# Altium integrated library Renesas Microcontroller 740.IntLib: 274 symbols (part 12 of 13)
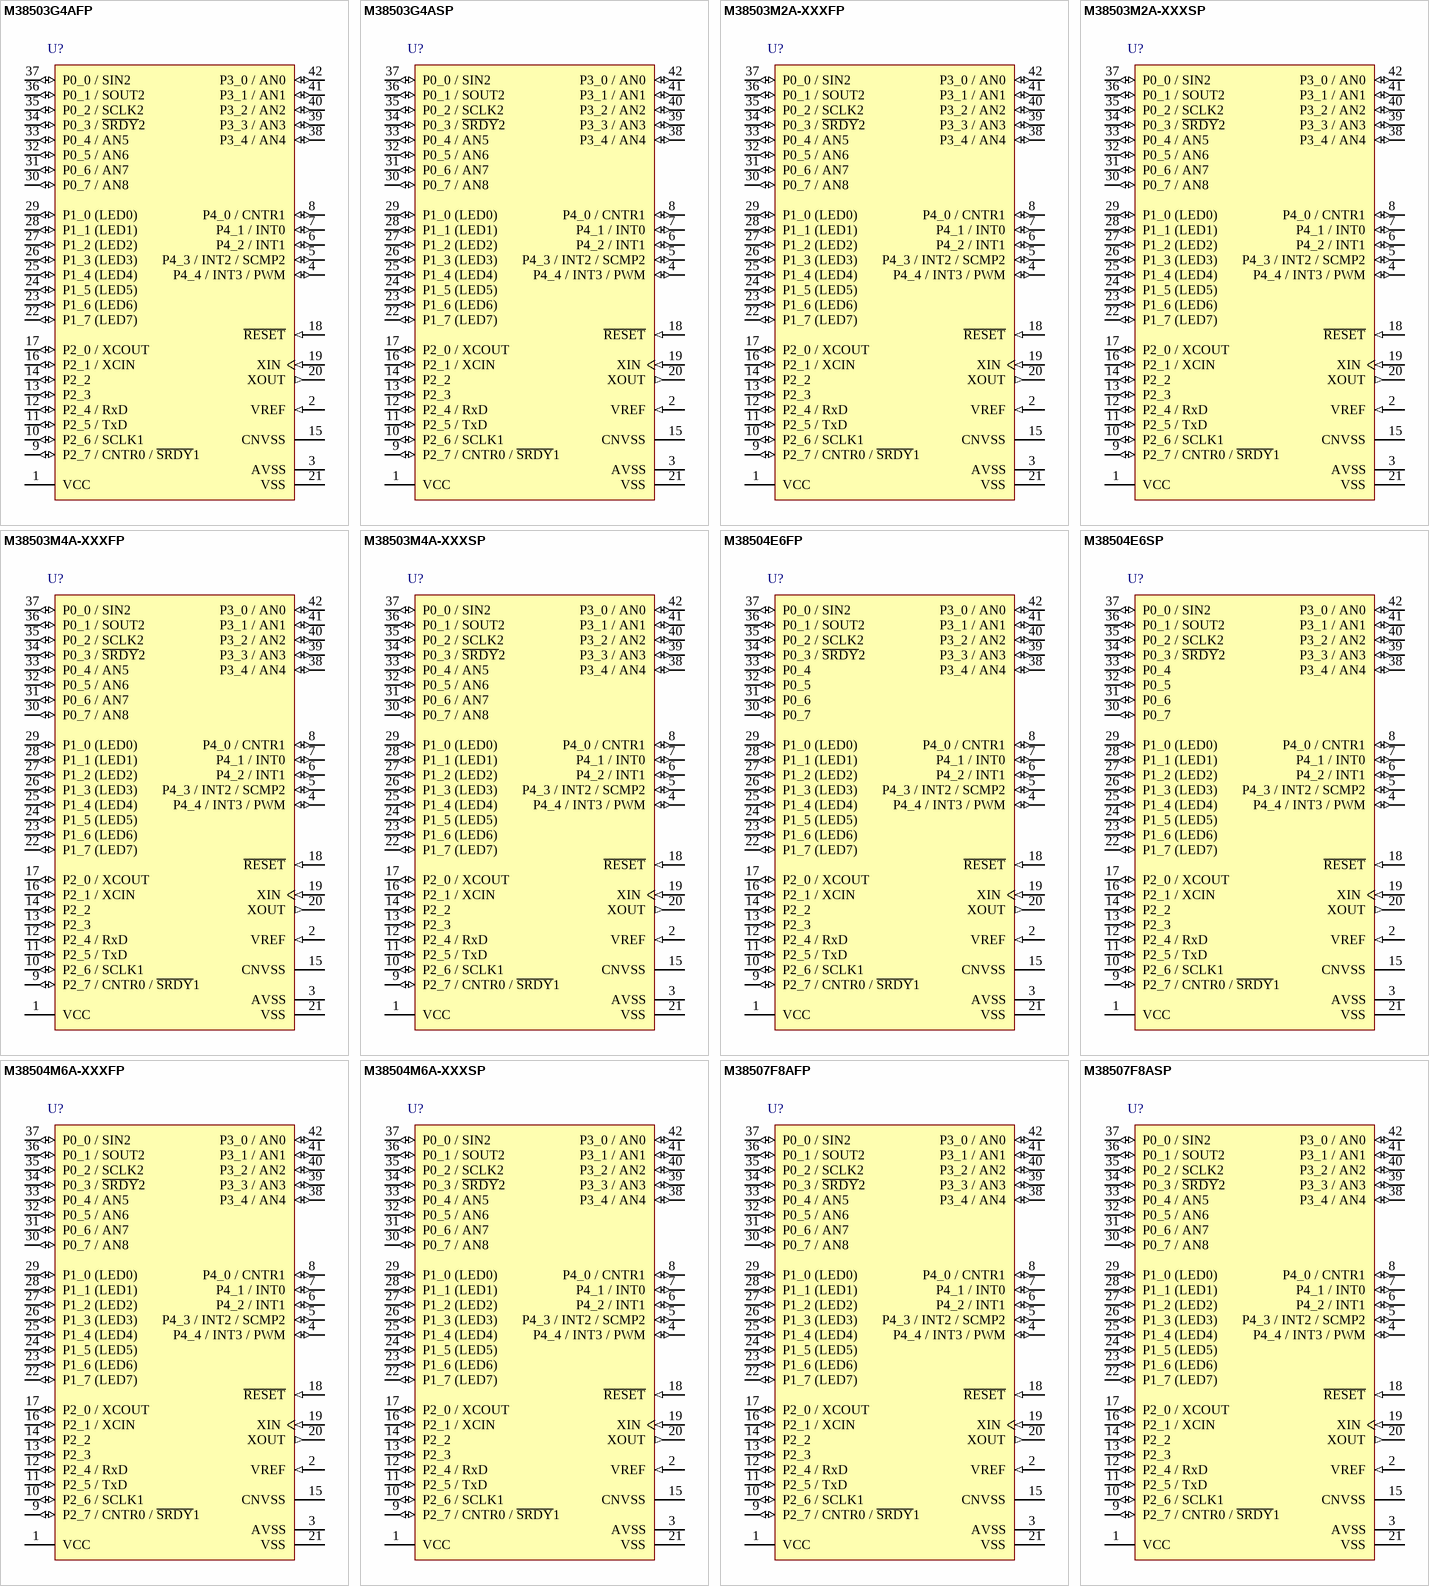
[diagram p48: symbols M38503G4AFP to M38507F8ASP]

## M38504M6A-XXXSP
designator U?
Mask ROM 8-BIT CMOS Microcomputer, 38000/740 Series CPU, 3850 Group, 24K ROM, 640 bytes RAM, 42P4B Pkg; Published: 28-Aug-2009; DatasheetVersion: Rev.2.13, Apr-2009; PackageVersion: Sep-2005; PackageReference: PRDP0042BA-A; Publisher: Altium Limited; PackageDescription: 42-Pin Plastic Shrink DIP, 36.7 x 13 mm Body, 15.24 mm Row Spacing, 1.778 mm Pitch; Code_JEITA: P-SDIP42-13x36.72-1.78; ComponentLink1Description: Manufacturer Link; ComponentLink1URL: http://sg.renesas.com/fmwk.jsp?cnt=740_family_landing.jsp&fp=/products/mpumcu/740_family/; ComponentLink2Description: Datasheet; ComponentLink2URL: http://documentation.renesas.com/eng/products/mpumcu/rej03b0125_3850aqzds.pdf; ComponentLink3Description: Packaging Specification; ComponentLink3URL: http://sg.renesas.com/media/products/common_info/package/pdf/ic/code/prdp0042ba_a.pdf
footprint PRDP0042BA-A (DIP, 42-Leads, Row Spacing 15.24mm, Pitch 1.778mm, Body 36.7x13mm)
pins: 1 VCC (power), 2 VREF (in), 3 AVSS (power), 4 P4_4 / INT3 / PWM (io), 5 P4_3 / INT2 / SCMP2 (io), 6 P4_2 / INT1 (io), 7 P4_1 / INT0 (io), 8 P4_0 / CNTR1 (io), 9 P2_7 / CNTR0 / ~{SRDY}1 (io), 10 P2_6 / SCLK1 (io), 11 P2_5 / TxD (io), 12 P2_4 / RxD (io), 13 P2_3 (io), 14 P2_2 (io), 15 CNVSS (power), 16 P2_1 / XCIN (io), 17 P2_0 / XCOUT (io), 18 ~{RESET} (in), 19 XIN (in), 20 XOUT (out), 21 VSS (power), 22 P1_7 (LED7) (io), 23 P1_6 (LED6) (io), 24 P1_5 (LED5) (io), 25 P1_4 (LED4) (io), 26 P1_3 (LED3) (io), 27 P1_2 (LED2) (io), 28 P1_1 (LED1) (io), 29 P1_0 (LED0) (io), 30 P0_7 / AN8 (io), 31 P0_6 / AN7 (io), 32 P0_5 / AN6 (io), 33 P0_4 / AN5 (io), 34 P0_3 / ~{SRDY}2 (io), 35 P0_2 / SCLK2 (io), 36 P0_1 / SOUT2 (io), 37 P0_0 / SIN2 (io), 38 P3_4 / AN4 (io), 39 P3_3 / AN3 (io), 40 P3_2 / AN2 (io), 41 P3_1 / AN1 (io), 42 P3_0 / AN0 (io)

## M38507F8AFP
designator U?
Flash Memory 8-BIT CMOS Microcomputer, 38000/740 Series CPU, 3850 Group, 32K ROM, 1K RAM, 42P2R-E Pkg; Published: 28-Aug-2009; DatasheetVersion: Rev.2.13, Apr-2009; PackageVersion: Sep-2005; PackageReference: PRSP0042GA-B; Publisher: Altium Limited; PackageDescription: 42-Pin Plastic Shrink SOP, 17.5 x 8.4 mm Body, 0.8 mm Pitch; Code_JEITA: P-SSOP42-8.4x17.5-0.80; ComponentLink1Description: Manufacturer Link; ComponentLink1URL: http://sg.renesas.com/fmwk.jsp?cnt=740_family_landing.jsp&fp=/products/mpumcu/740_family/; ComponentLink2Description: Datasheet; ComponentLink2URL: http://documentation.renesas.com/eng/products/mpumcu/rej03b0125_3850aqzds.pdf; ComponentLink3Description: Packaging Specification; ComponentLink3URL: http://sg.renesas.com/media/products/common_info/package/pdf/ic/code/prsp0042ga_b.pdf
footprint PRSP0042GA-B_N (SOP, 42-Leads, Body 17.5x8.4mm, Pitch 0.8mm, IPC Medium Density)
footprint PRSP0042GA-B_L (SOP, 42-Leads, Body 17.5x8.4mm, Pitch 0.8mm, IPC High Density)
footprint PRSP0042GA-B_M (SOP, 42-Leads, Body 17.5x8.4mm, Pitch 0.8mm, IPC Low Density)
pins: 1 VCC (power), 2 VREF (in), 3 AVSS (power), 4 P4_4 / INT3 / PWM (io), 5 P4_3 / INT2 / SCMP2 (io), 6 P4_2 / INT1 (io), 7 P4_1 / INT0 (io), 8 P4_0 / CNTR1 (io), 9 P2_7 / CNTR0 / ~{SRDY}1 (io), 10 P2_6 / SCLK1 (io), 11 P2_5 / TxD (io), 12 P2_4 / RxD (io), 13 P2_3 (io), 14 P2_2 (io), 15 CNVSS (power), 16 P2_1 / XCIN (io), 17 P2_0 / XCOUT (io), 18 ~{RESET} (in), 19 XIN (in), 20 XOUT (out), 21 VSS (power), 22 P1_7 (LED7) (io), 23 P1_6 (LED6) (io), 24 P1_5 (LED5) (io), 25 P1_4 (LED4) (io), 26 P1_3 (LED3) (io), 27 P1_2 (LED2) (io), 28 P1_1 (LED1) (io), 29 P1_0 (LED0) (io), 30 P0_7 / AN8 (io), 31 P0_6 / AN7 (io), 32 P0_5 / AN6 (io), 33 P0_4 / AN5 (io), 34 P0_3 / ~{SRDY}2 (io), 35 P0_2 / SCLK2 (io), 36 P0_1 / SOUT2 (io), 37 P0_0 / SIN2 (io), 38 P3_4 / AN4 (io), 39 P3_3 / AN3 (io), 40 P3_2 / AN2 (io), 41 P3_1 / AN1 (io), 42 P3_0 / AN0 (io)

## M38507F8ASP
designator U?
Flash Memory 8-BIT CMOS Microcomputer, 38000/740 Series CPU, 3850 Group, 32K ROM, 1K RAM, 42P4B Pkg; Published: 28-Aug-2009; DatasheetVersion: Rev.2.13, Apr-2009; PackageVersion: Sep-2005; PackageReference: PRDP0042BA-A; Publisher: Altium Limited; PackageDescription: 42-Pin Plastic Shrink DIP, 36.7 x 13 mm Body, 15.24 mm Row Spacing, 1.778 mm Pitch; Code_JEITA: P-SDIP42-13x36.72-1.78; ComponentLink1Description: Manufacturer Link; ComponentLink1URL: http://sg.renesas.com/fmwk.jsp?cnt=740_family_landing.jsp&fp=/products/mpumcu/740_family/; ComponentLink2Description: Datasheet; ComponentLink2URL: http://documentation.renesas.com/eng/products/mpumcu/rej03b0125_3850aqzds.pdf; ComponentLink3Description: Packaging Specification; ComponentLink3URL: http://sg.renesas.com/media/products/common_info/package/pdf/ic/code/prdp0042ba_a.pdf
footprint PRDP0042BA-A (DIP, 42-Leads, Row Spacing 15.24mm, Pitch 1.778mm, Body 36.7x13mm)
pins: 1 VCC (power), 2 VREF (in), 3 AVSS (power), 4 P4_4 / INT3 / PWM (io), 5 P4_3 / INT2 / SCMP2 (io), 6 P4_2 / INT1 (io), 7 P4_1 / INT0 (io), 8 P4_0 / CNTR1 (io), 9 P2_7 / CNTR0 / ~{SRDY}1 (io), 10 P2_6 / SCLK1 (io), 11 P2_5 / TxD (io), 12 P2_4 / RxD (io), 13 P2_3 (io), 14 P2_2 (io), 15 CNVSS (power), 16 P2_1 / XCIN (io), 17 P2_0 / XCOUT (io), 18 ~{RESET} (in), 19 XIN (in), 20 XOUT (out), 21 VSS (power), 22 P1_7 (LED7) (io), 23 P1_6 (LED6) (io), 24 P1_5 (LED5) (io), 25 P1_4 (LED4) (io), 26 P1_3 (LED3) (io), 27 P1_2 (LED2) (io), 28 P1_1 (LED1) (io), 29 P1_0 (LED0) (io), 30 P0_7 / AN8 (io), 31 P0_6 / AN7 (io), 32 P0_5 / AN6 (io), 33 P0_4 / AN5 (io), 34 P0_3 / ~{SRDY}2 (io), 35 P0_2 / SCLK2 (io), 36 P0_1 / SOUT2 (io), 37 P0_0 / SIN2 (io), 38 P3_4 / AN4 (io), 39 P3_3 / AN3 (io), 40 P3_2 / AN2 (io), 41 P3_1 / AN1 (io), 42 P3_0 / AN0 (io)

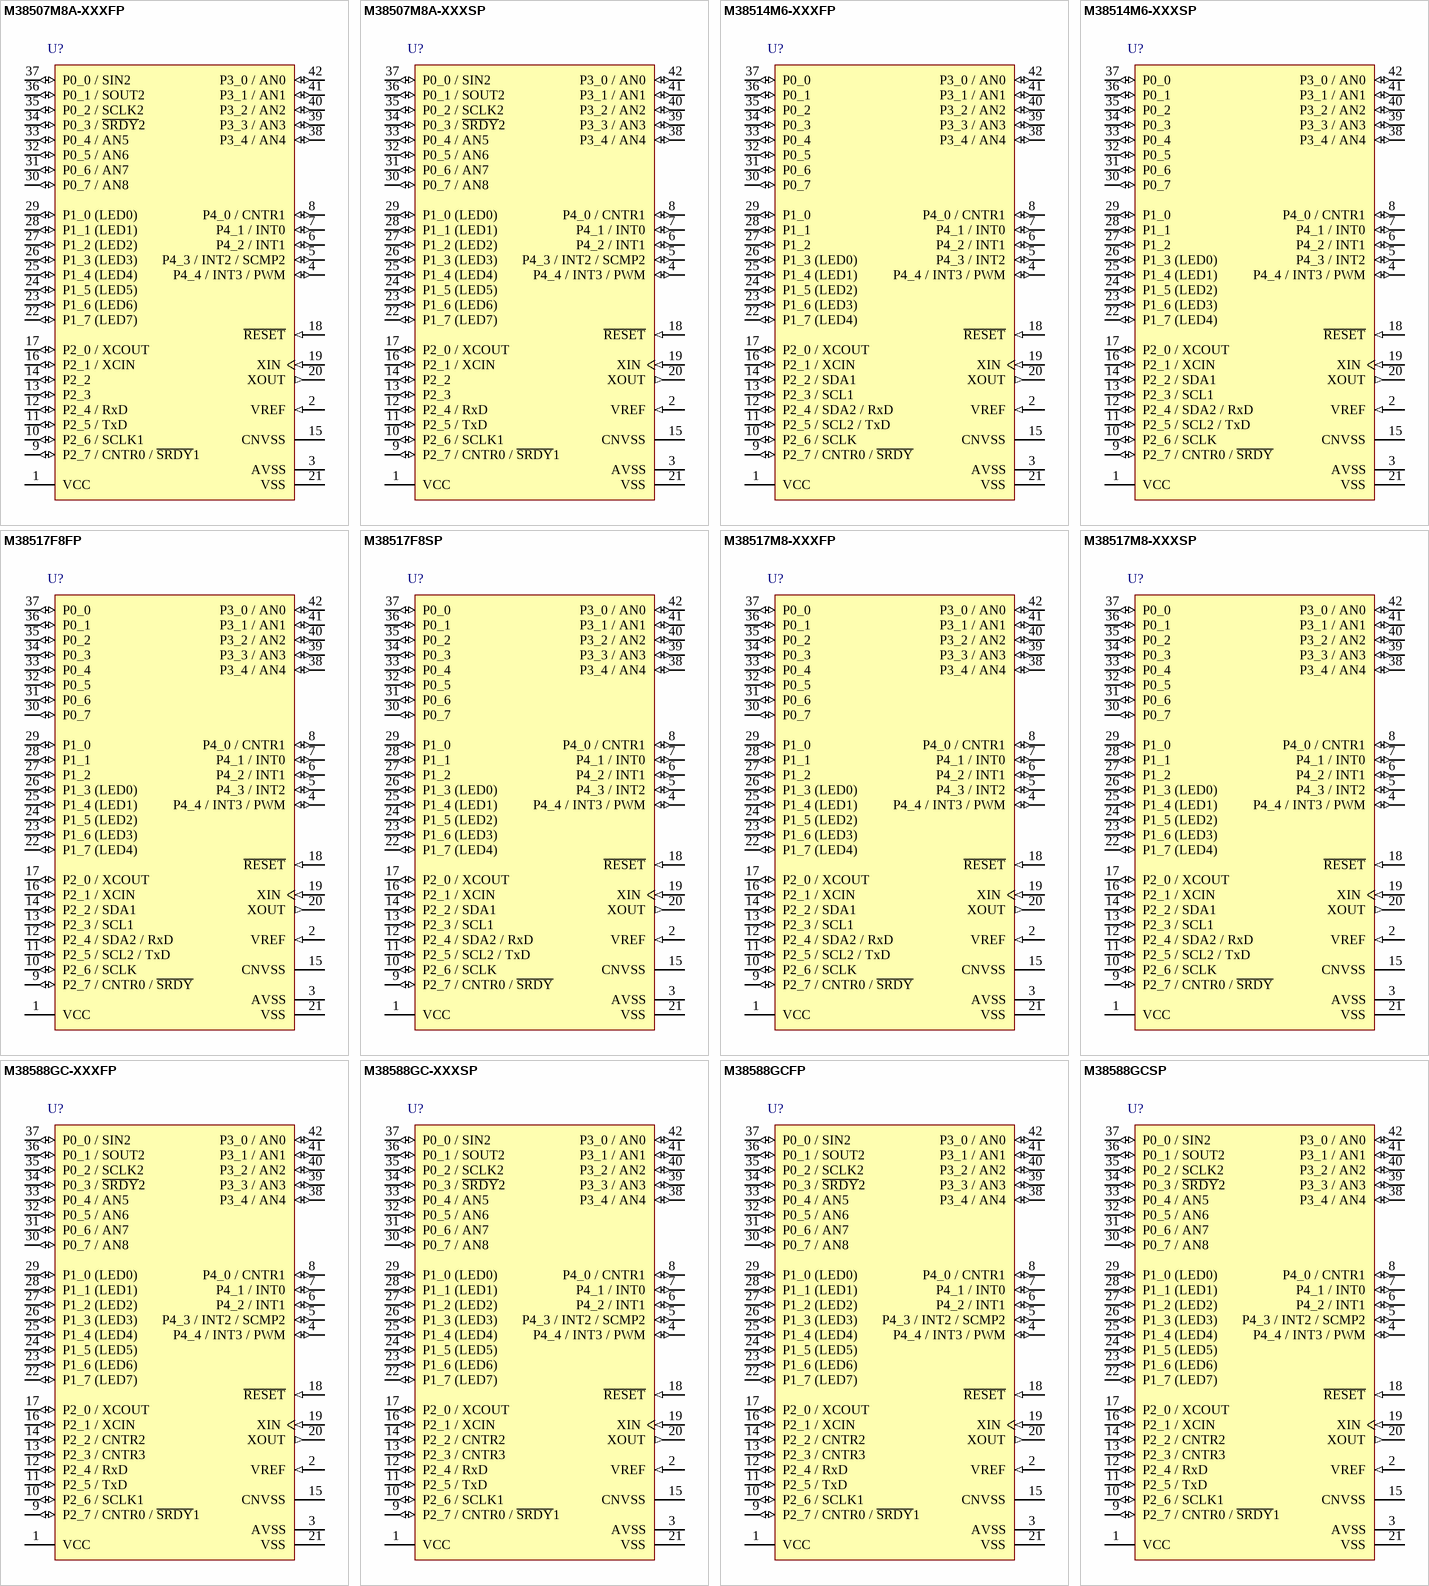
[diagram p33: symbols M38507M8A-XXXFP to M38588GCSP]

## M38507M8A-XXXFP
designator U?
Mask ROM 8-BIT CMOS Microcomputer, 38000/740 Series CPU, 3850 Group, 32K ROM, 1K RAM, 42P2R-E Pkg; Published: 28-Aug-2009; DatasheetVersion: Rev.2.13, Apr-2009; PackageVersion: Sep-2005; PackageReference: PRSP0042GA-B; Publisher: Altium Limited; PackageDescription: 42-Pin Plastic Shrink SOP, 17.5 x 8.4 mm Body, 0.8 mm Pitch; Code_JEITA: P-SSOP42-8.4x17.5-0.80; ComponentLink1Description: Manufacturer Link; ComponentLink1URL: http://sg.renesas.com/fmwk.jsp?cnt=740_family_landing.jsp&fp=/products/mpumcu/740_family/; ComponentLink2Description: Datasheet; ComponentLink2URL: http://documentation.renesas.com/eng/products/mpumcu/rej03b0125_3850aqzds.pdf; ComponentLink3Description: Packaging Specification; ComponentLink3URL: http://sg.renesas.com/media/products/common_info/package/pdf/ic/code/prsp0042ga_b.pdf
footprint PRSP0042GA-B_N (SOP, 42-Leads, Body 17.5x8.4mm, Pitch 0.8mm, IPC Medium Density)
footprint PRSP0042GA-B_L (SOP, 42-Leads, Body 17.5x8.4mm, Pitch 0.8mm, IPC High Density)
footprint PRSP0042GA-B_M (SOP, 42-Leads, Body 17.5x8.4mm, Pitch 0.8mm, IPC Low Density)
pins: 1 VCC (power), 2 VREF (in), 3 AVSS (power), 4 P4_4 / INT3 / PWM (io), 5 P4_3 / INT2 / SCMP2 (io), 6 P4_2 / INT1 (io), 7 P4_1 / INT0 (io), 8 P4_0 / CNTR1 (io), 9 P2_7 / CNTR0 / ~{SRDY}1 (io), 10 P2_6 / SCLK1 (io), 11 P2_5 / TxD (io), 12 P2_4 / RxD (io), 13 P2_3 (io), 14 P2_2 (io), 15 CNVSS (power), 16 P2_1 / XCIN (io), 17 P2_0 / XCOUT (io), 18 ~{RESET} (in), 19 XIN (in), 20 XOUT (out), 21 VSS (power), 22 P1_7 (LED7) (io), 23 P1_6 (LED6) (io), 24 P1_5 (LED5) (io), 25 P1_4 (LED4) (io), 26 P1_3 (LED3) (io), 27 P1_2 (LED2) (io), 28 P1_1 (LED1) (io), 29 P1_0 (LED0) (io), 30 P0_7 / AN8 (io), 31 P0_6 / AN7 (io), 32 P0_5 / AN6 (io), 33 P0_4 / AN5 (io), 34 P0_3 / ~{SRDY}2 (io), 35 P0_2 / SCLK2 (io), 36 P0_1 / SOUT2 (io), 37 P0_0 / SIN2 (io), 38 P3_4 / AN4 (io), 39 P3_3 / AN3 (io), 40 P3_2 / AN2 (io), 41 P3_1 / AN1 (io), 42 P3_0 / AN0 (io)

## M38507M8A-XXXSP
designator U?
Mask ROM 8-BIT CMOS Microcomputer, 38000/740 Series CPU, 3850 Group, 32K ROM, 1K RAM, 42P4B Pkg; Published: 28-Aug-2009; DatasheetVersion: Rev.2.13, Apr-2009; PackageVersion: Sep-2005; PackageReference: PRDP0042BA-A; Publisher: Altium Limited; PackageDescription: 42-Pin Plastic Shrink DIP, 36.7 x 13 mm Body, 15.24 mm Row Spacing, 1.778 mm Pitch; Code_JEITA: P-SDIP42-13x36.72-1.78; ComponentLink1Description: Manufacturer Link; ComponentLink1URL: http://sg.renesas.com/fmwk.jsp?cnt=740_family_landing.jsp&fp=/products/mpumcu/740_family/; ComponentLink2Description: Datasheet; ComponentLink2URL: http://documentation.renesas.com/eng/products/mpumcu/rej03b0125_3850aqzds.pdf; ComponentLink3Description: Packaging Specification; ComponentLink3URL: http://sg.renesas.com/media/products/common_info/package/pdf/ic/code/prdp0042ba_a.pdf
footprint PRDP0042BA-A (DIP, 42-Leads, Row Spacing 15.24mm, Pitch 1.778mm, Body 36.7x13mm)
pins: 1 VCC (power), 2 VREF (in), 3 AVSS (power), 4 P4_4 / INT3 / PWM (io), 5 P4_3 / INT2 / SCMP2 (io), 6 P4_2 / INT1 (io), 7 P4_1 / INT0 (io), 8 P4_0 / CNTR1 (io), 9 P2_7 / CNTR0 / ~{SRDY}1 (io), 10 P2_6 / SCLK1 (io), 11 P2_5 / TxD (io), 12 P2_4 / RxD (io), 13 P2_3 (io), 14 P2_2 (io), 15 CNVSS (power), 16 P2_1 / XCIN (io), 17 P2_0 / XCOUT (io), 18 ~{RESET} (in), 19 XIN (in), 20 XOUT (out), 21 VSS (power), 22 P1_7 (LED7) (io), 23 P1_6 (LED6) (io), 24 P1_5 (LED5) (io), 25 P1_4 (LED4) (io), 26 P1_3 (LED3) (io), 27 P1_2 (LED2) (io), 28 P1_1 (LED1) (io), 29 P1_0 (LED0) (io), 30 P0_7 / AN8 (io), 31 P0_6 / AN7 (io), 32 P0_5 / AN6 (io), 33 P0_4 / AN5 (io), 34 P0_3 / ~{SRDY}2 (io), 35 P0_2 / SCLK2 (io), 36 P0_1 / SOUT2 (io), 37 P0_0 / SIN2 (io), 38 P3_4 / AN4 (io), 39 P3_3 / AN3 (io), 40 P3_2 / AN2 (io), 41 P3_1 / AN1 (io), 42 P3_0 / AN0 (io)

## M38514M6-XXXFP
designator U?
QzROM 8-BIT CMOS Microcomputer, 38000/740 Series CPU, 3851 Group, 24K ROM, 640 bytes RAM, 42P2R-E Pkg; Published: 28-Aug-2009; DatasheetVersion: Rev.1.0, Oct-1998; PackageVersion: Sep-2005; PackageReference: PRSP0042GA-B; Publisher: Altium Limited; PackageDescription: 42-Pin Plastic Shrink SOP, 17.5 x 8.4 mm Body, 0.8 mm Pitch; Code_JEITA: P-SSOP42-8.4x17.5-0.80; ComponentLink1Description: Manufacturer Link; ComponentLink1URL: http://sg.renesas.com/fmwk.jsp?cnt=740_family_landing.jsp&fp=/products/mpumcu/740_family/; ComponentLink2Description: Datasheet; ComponentLink2URL: http://documentation.renesas.com/eng/products/mpumcu/e3851um.pdf; ComponentLink3Description: Packaging Specification; ComponentLink3URL: http://sg.renesas.com/media/products/common_info/package/pdf/ic/code/prsp0042ga_b.pdf
footprint PRSP0042GA-B_N (SOP, 42-Leads, Body 17.5x8.4mm, Pitch 0.8mm, IPC Medium Density)
footprint PRSP0042GA-B_L (SOP, 42-Leads, Body 17.5x8.4mm, Pitch 0.8mm, IPC High Density)
footprint PRSP0042GA-B_M (SOP, 42-Leads, Body 17.5x8.4mm, Pitch 0.8mm, IPC Low Density)
pins: 1 VCC (power), 2 VREF (in), 3 AVSS (power), 4 P4_4 / INT3 / PWM (io), 5 P4_3 / INT2 (io), 6 P4_2 / INT1 (io), 7 P4_1 / INT0 (io), 8 P4_0 / CNTR1 (io), 9 P2_7 / CNTR0 / ~{SRDY} (io), 10 P2_6 / SCLK (io), 11 P2_5 / SCL2 / TxD (io), 12 P2_4 / SDA2 / RxD (io), 13 P2_3 / SCL1 (io), 14 P2_2 / SDA1 (io), 15 CNVSS (power), 16 P2_1 / XCIN (io), 17 P2_0 / XCOUT (io), 18 ~{RESET} (in), 19 XIN (in), 20 XOUT (out), 21 VSS (power), 22 P1_7 (LED4) (io), 23 P1_6 (LED3) (io), 24 P1_5 (LED2) (io), 25 P1_4 (LED1) (io), 26 P1_3 (LED0) (io), 27 P1_2 (io), 28 P1_1 (io), 29 P1_0 (io), 30 P0_7 (io), 31 P0_6 (io), 32 P0_5 (io), 33 P0_4 (io), 34 P0_3 (io), 35 P0_2 (io), 36 P0_1 (io), 37 P0_0 (io), 38 P3_4 / AN4 (io), 39 P3_3 / AN3 (io), 40 P3_2 / AN2 (io), 41 P3_1 / AN1 (io), 42 P3_0 / AN0 (io)

## M38514M6-XXXSP
designator U?
QzROM 8-BIT CMOS Microcomputer, 38000/740 Series CPU, 3851 Group, 24K ROM, 640 bytes RAM, 42P4B Pkg; Published: 28-Aug-2009; DatasheetVersion: Rev.1.0, Oct-1998; PackageVersion: Sep-2005; PackageReference: PRDP0042BA-A; Publisher: Altium Limited; PackageDescription: 42-Pin Plastic Shrink DIP, 36.7 x 13 mm Body, 15.24 mm Row Spacing, 1.778 mm Pitch; Code_JEITA: P-SDIP42-13x36.72-1.78; ComponentLink1Description: Manufacturer Link; ComponentLink1URL: http://sg.renesas.com/fmwk.jsp?cnt=740_family_landing.jsp&fp=/products/mpumcu/740_family/; ComponentLink2Description: Datasheet; ComponentLink2URL: http://documentation.renesas.com/eng/products/mpumcu/e3851um.pdf; ComponentLink3Description: Packaging Specification; ComponentLink3URL: http://sg.renesas.com/media/products/common_info/package/pdf/ic/code/prdp0042ba_a.pdf
footprint PRDP0042BA-A (DIP, 42-Leads, Row Spacing 15.24mm, Pitch 1.778mm, Body 36.7x13mm)
pins: 1 VCC (power), 2 VREF (in), 3 AVSS (power), 4 P4_4 / INT3 / PWM (io), 5 P4_3 / INT2 (io), 6 P4_2 / INT1 (io), 7 P4_1 / INT0 (io), 8 P4_0 / CNTR1 (io), 9 P2_7 / CNTR0 / ~{SRDY} (io), 10 P2_6 / SCLK (io), 11 P2_5 / SCL2 / TxD (io), 12 P2_4 / SDA2 / RxD (io), 13 P2_3 / SCL1 (io), 14 P2_2 / SDA1 (io), 15 CNVSS (power), 16 P2_1 / XCIN (io), 17 P2_0 / XCOUT (io), 18 ~{RESET} (in), 19 XIN (in), 20 XOUT (out), 21 VSS (power), 22 P1_7 (LED4) (io), 23 P1_6 (LED3) (io), 24 P1_5 (LED2) (io), 25 P1_4 (LED1) (io), 26 P1_3 (LED0) (io), 27 P1_2 (io), 28 P1_1 (io), 29 P1_0 (io), 30 P0_7 (io), 31 P0_6 (io), 32 P0_5 (io), 33 P0_4 (io), 34 P0_3 (io), 35 P0_2 (io), 36 P0_1 (io), 37 P0_0 (io), 38 P3_4 / AN4 (io), 39 P3_3 / AN3 (io), 40 P3_2 / AN2 (io), 41 P3_1 / AN1 (io), 42 P3_0 / AN0 (io)

## M38517F8FP
designator U?
QzROM 8-BIT CMOS Microcomputer, 38000/740 Series CPU, 3851 Group, 32K ROM, 1K RAM, 42P2R-E Pkg, shipped in blank; Published: 28-Aug-2009; DatasheetVersion: Rev.1.0, Oct-1998; PackageVersion: Sep-2005; PackageReference: PRSP0042GA-B; Publisher: Altium Limited; PackageDescription: 42-Pin Plastic Shrink SOP, 17.5 x 8.4 mm Body, 0.8 mm Pitch; Code_JEITA: P-SSOP42-8.4x17.5-0.80; ComponentLink1Description: Manufacturer Link; ComponentLink1URL: http://sg.renesas.com/fmwk.jsp?cnt=740_family_landing.jsp&fp=/products/mpumcu/740_family/; ComponentLink2Description: Datasheet; ComponentLink2URL: http://documentation.renesas.com/eng/products/mpumcu/e3851um.pdf; ComponentLink3Description: Packaging Specification; ComponentLink3URL: http://sg.renesas.com/media/products/common_info/package/pdf/ic/code/prsp0042ga_b.pdf
footprint PRSP0042GA-B_N (SOP, 42-Leads, Body 17.5x8.4mm, Pitch 0.8mm, IPC Medium Density)
footprint PRSP0042GA-B_L (SOP, 42-Leads, Body 17.5x8.4mm, Pitch 0.8mm, IPC High Density)
footprint PRSP0042GA-B_M (SOP, 42-Leads, Body 17.5x8.4mm, Pitch 0.8mm, IPC Low Density)
pins: 1 VCC (power), 2 VREF (in), 3 AVSS (power), 4 P4_4 / INT3 / PWM (io), 5 P4_3 / INT2 (io), 6 P4_2 / INT1 (io), 7 P4_1 / INT0 (io), 8 P4_0 / CNTR1 (io), 9 P2_7 / CNTR0 / ~{SRDY} (io), 10 P2_6 / SCLK (io), 11 P2_5 / SCL2 / TxD (io), 12 P2_4 / SDA2 / RxD (io), 13 P2_3 / SCL1 (io), 14 P2_2 / SDA1 (io), 15 CNVSS (power), 16 P2_1 / XCIN (io), 17 P2_0 / XCOUT (io), 18 ~{RESET} (in), 19 XIN (in), 20 XOUT (out), 21 VSS (power), 22 P1_7 (LED4) (io), 23 P1_6 (LED3) (io), 24 P1_5 (LED2) (io), 25 P1_4 (LED1) (io), 26 P1_3 (LED0) (io), 27 P1_2 (io), 28 P1_1 (io), 29 P1_0 (io), 30 P0_7 (io), 31 P0_6 (io), 32 P0_5 (io), 33 P0_4 (io), 34 P0_3 (io), 35 P0_2 (io), 36 P0_1 (io), 37 P0_0 (io), 38 P3_4 / AN4 (io), 39 P3_3 / AN3 (io), 40 P3_2 / AN2 (io), 41 P3_1 / AN1 (io), 42 P3_0 / AN0 (io)

## M38517F8SP
designator U?
QzROM 8-BIT CMOS Microcomputer, 38000/740 Series CPU, 3851 Group, 32K ROM, 1K RAM, 42P4B Pkg, shipped in blank; Published: 28-Aug-2009; DatasheetVersion: Rev.1.0, Oct-1998; PackageVersion: Sep-2005; PackageReference: PRDP0042BA-A; Publisher: Altium Limited; PackageDescription: 42-Pin Plastic Shrink DIP, 36.7 x 13 mm Body, 15.24 mm Row Spacing, 1.778 mm Pitch; Code_JEITA: P-SDIP42-13x36.72-1.78; ComponentLink1Description: Manufacturer Link; ComponentLink1URL: http://sg.renesas.com/fmwk.jsp?cnt=740_family_landing.jsp&fp=/products/mpumcu/740_family/; ComponentLink2Description: Datasheet; ComponentLink2URL: http://documentation.renesas.com/eng/products/mpumcu/e3851um.pdf; ComponentLink3Description: Packaging Specification; ComponentLink3URL: http://sg.renesas.com/media/products/common_info/package/pdf/ic/code/prdp0042ba_a.pdf
footprint PRDP0042BA-A (DIP, 42-Leads, Row Spacing 15.24mm, Pitch 1.778mm, Body 36.7x13mm)
pins: 1 VCC (power), 2 VREF (in), 3 AVSS (power), 4 P4_4 / INT3 / PWM (io), 5 P4_3 / INT2 (io), 6 P4_2 / INT1 (io), 7 P4_1 / INT0 (io), 8 P4_0 / CNTR1 (io), 9 P2_7 / CNTR0 / ~{SRDY} (io), 10 P2_6 / SCLK (io), 11 P2_5 / SCL2 / TxD (io), 12 P2_4 / SDA2 / RxD (io), 13 P2_3 / SCL1 (io), 14 P2_2 / SDA1 (io), 15 CNVSS (power), 16 P2_1 / XCIN (io), 17 P2_0 / XCOUT (io), 18 ~{RESET} (in), 19 XIN (in), 20 XOUT (out), 21 VSS (power), 22 P1_7 (LED4) (io), 23 P1_6 (LED3) (io), 24 P1_5 (LED2) (io), 25 P1_4 (LED1) (io), 26 P1_3 (LED0) (io), 27 P1_2 (io), 28 P1_1 (io), 29 P1_0 (io), 30 P0_7 (io), 31 P0_6 (io), 32 P0_5 (io), 33 P0_4 (io), 34 P0_3 (io), 35 P0_2 (io), 36 P0_1 (io), 37 P0_0 (io), 38 P3_4 / AN4 (io), 39 P3_3 / AN3 (io), 40 P3_2 / AN2 (io), 41 P3_1 / AN1 (io), 42 P3_0 / AN0 (io)

## M38517M8-XXXFP
designator U?
QzROM 8-BIT CMOS Microcomputer, 38000/740 Series CPU, 3851 Group, 32K ROM, 1K RAM, 42P2R-E Pkg; Published: 28-Aug-2009; DatasheetVersion: Rev.1.0, Oct-1998; PackageVersion: Sep-2005; PackageReference: PRSP0042GA-B; Publisher: Altium Limited; PackageDescription: 42-Pin Plastic Shrink SOP, 17.5 x 8.4 mm Body, 0.8 mm Pitch; Code_JEITA: P-SSOP42-8.4x17.5-0.80; ComponentLink1Description: Manufacturer Link; ComponentLink1URL: http://sg.renesas.com/fmwk.jsp?cnt=740_family_landing.jsp&fp=/products/mpumcu/740_family/; ComponentLink2Description: Datasheet; ComponentLink2URL: http://documentation.renesas.com/eng/products/mpumcu/e3851um.pdf; ComponentLink3Description: Packaging Specification; ComponentLink3URL: http://sg.renesas.com/media/products/common_info/package/pdf/ic/code/prsp0042ga_b.pdf
footprint PRSP0042GA-B_N (SOP, 42-Leads, Body 17.5x8.4mm, Pitch 0.8mm, IPC Medium Density)
footprint PRSP0042GA-B_L (SOP, 42-Leads, Body 17.5x8.4mm, Pitch 0.8mm, IPC High Density)
footprint PRSP0042GA-B_M (SOP, 42-Leads, Body 17.5x8.4mm, Pitch 0.8mm, IPC Low Density)
pins: 1 VCC (power), 2 VREF (in), 3 AVSS (power), 4 P4_4 / INT3 / PWM (io), 5 P4_3 / INT2 (io), 6 P4_2 / INT1 (io), 7 P4_1 / INT0 (io), 8 P4_0 / CNTR1 (io), 9 P2_7 / CNTR0 / ~{SRDY} (io), 10 P2_6 / SCLK (io), 11 P2_5 / SCL2 / TxD (io), 12 P2_4 / SDA2 / RxD (io), 13 P2_3 / SCL1 (io), 14 P2_2 / SDA1 (io), 15 CNVSS (power), 16 P2_1 / XCIN (io), 17 P2_0 / XCOUT (io), 18 ~{RESET} (in), 19 XIN (in), 20 XOUT (out), 21 VSS (power), 22 P1_7 (LED4) (io), 23 P1_6 (LED3) (io), 24 P1_5 (LED2) (io), 25 P1_4 (LED1) (io), 26 P1_3 (LED0) (io), 27 P1_2 (io), 28 P1_1 (io), 29 P1_0 (io), 30 P0_7 (io), 31 P0_6 (io), 32 P0_5 (io), 33 P0_4 (io), 34 P0_3 (io), 35 P0_2 (io), 36 P0_1 (io), 37 P0_0 (io), 38 P3_4 / AN4 (io), 39 P3_3 / AN3 (io), 40 P3_2 / AN2 (io), 41 P3_1 / AN1 (io), 42 P3_0 / AN0 (io)

## M38517M8-XXXSP
designator U?
QzROM 8-BIT CMOS Microcomputer, 38000/740 Series CPU, 3851 Group, 32K ROM, 1K RAM, 42P4B Pkg; ComponentAvailability: Check status with vendor; Published: 28-Aug-2009; DatasheetVersion: Rev.1.0, Oct-1998; PackageVersion: Sep-2005; PackageReference: PRDP0042BA-A; Publisher: Altium Limited; PackageDescription: 42-Pin Plastic Shrink DIP, 36.7 x 13 mm Body, 15.24 mm Row Spacing, 1.778 mm Pitch; Code_JEITA: P-SDIP42-13x36.72-1.78; ComponentLink1Description: Manufacturer Link; ComponentLink1URL: http://sg.renesas.com/fmwk.jsp?cnt=740_family_landing.jsp&fp=/products/mpumcu/740_family/; ComponentLink2Description: Datasheet; ComponentLink2URL: http://documentation.renesas.com/eng/products/mpumcu/e3851um.pdf; ComponentLink3Description: Packaging Specification; ComponentLink3URL: http://sg.renesas.com/media/products/common_info/package/pdf/ic/code/prdp0042ba_a.pdf
footprint PRDP0042BA-A (DIP, 42-Leads, Row Spacing 15.24mm, Pitch 1.778mm, Body 36.7x13mm)
pins: 1 VCC (power), 2 VREF (in), 3 AVSS (power), 4 P4_4 / INT3 / PWM (io), 5 P4_3 / INT2 (io), 6 P4_2 / INT1 (io), 7 P4_1 / INT0 (io), 8 P4_0 / CNTR1 (io), 9 P2_7 / CNTR0 / ~{SRDY} (io), 10 P2_6 / SCLK (io), 11 P2_5 / SCL2 / TxD (io), 12 P2_4 / SDA2 / RxD (io), 13 P2_3 / SCL1 (io), 14 P2_2 / SDA1 (io), 15 CNVSS (power), 16 P2_1 / XCIN (io), 17 P2_0 / XCOUT (io), 18 ~{RESET} (in), 19 XIN (in), 20 XOUT (out), 21 VSS (power), 22 P1_7 (LED4) (io), 23 P1_6 (LED3) (io), 24 P1_5 (LED2) (io), 25 P1_4 (LED1) (io), 26 P1_3 (LED0) (io), 27 P1_2 (io), 28 P1_1 (io), 29 P1_0 (io), 30 P0_7 (io), 31 P0_6 (io), 32 P0_5 (io), 33 P0_4 (io), 34 P0_3 (io), 35 P0_2 (io), 36 P0_1 (io), 37 P0_0 (io), 38 P3_4 / AN4 (io), 39 P3_3 / AN3 (io), 40 P3_2 / AN2 (io), 41 P3_1 / AN1 (io), 42 P3_0 / AN0 (io)

## M38588GC-XXXFP
designator U?
QzROM 8-BIT CMOS Microcomputer, 38000/740 Series CPU, 3858 Group, 48K ROM, 1.5K RAM, 42P2R-E Pkg; Published: 28-Aug-2009; DatasheetVersion: Rev.1.11, Dec-2008; PackageVersion: Sep-2005; PackageReference: PRSP0042GA-B; Publisher: Altium Limited; PackageDescription: 42-Pin Plastic Shrink SOP, 17.5 x 8.4 mm Body, 0.8 mm Pitch; Code_JEITA: P-SSOP42-8.4x17.5-0.80; ComponentLink1Description: Manufacturer Link; ComponentLink1URL: http://sg.renesas.com/fmwk.jsp?cnt=740_family_landing.jsp&fp=/products/mpumcu/740_family/; ComponentLink2Description: Datasheet; ComponentLink2URL: http://documentation.renesas.com/eng/products/mpumcu/rej03b0139_3858ds.pdf; ComponentLink3Description: Packaging Specification; ComponentLink3URL: http://sg.renesas.com/media/products/common_info/package/pdf/ic/code/prsp0042ga_b.pdf
footprint PRSP0042GA-B_N (SOP, 42-Leads, Body 17.5x8.4mm, Pitch 0.8mm, IPC Medium Density)
footprint PRSP0042GA-B_L (SOP, 42-Leads, Body 17.5x8.4mm, Pitch 0.8mm, IPC High Density)
footprint PRSP0042GA-B_M (SOP, 42-Leads, Body 17.5x8.4mm, Pitch 0.8mm, IPC Low Density)
pins: 1 VCC (power), 2 VREF (in), 3 AVSS (power), 4 P4_4 / INT3 / PWM (io), 5 P4_3 / INT2 / SCMP2 (io), 6 P4_2 / INT1 (io), 7 P4_1 / INT0 (io), 8 P4_0 / CNTR1 (io), 9 P2_7 / CNTR0 / ~{SRDY}1 (io), 10 P2_6 / SCLK1 (io), 11 P2_5 / TxD (io), 12 P2_4 / RxD (io), 13 P2_3 / CNTR3 (io), 14 P2_2 / CNTR2 (io), 15 CNVSS (power), 16 P2_1 / XCIN (io), 17 P2_0 / XCOUT (io), 18 ~{RESET} (in), 19 XIN (in), 20 XOUT (out), 21 VSS (power), 22 P1_7 (LED7) (io), 23 P1_6 (LED6) (io), 24 P1_5 (LED5) (io), 25 P1_4 (LED4) (io), 26 P1_3 (LED3) (io), 27 P1_2 (LED2) (io), 28 P1_1 (LED1) (io), 29 P1_0 (LED0) (io), 30 P0_7 / AN8 (io), 31 P0_6 / AN7 (io), 32 P0_5 / AN6 (io), 33 P0_4 / AN5 (io), 34 P0_3 / ~{SRDY}2 (io), 35 P0_2 / SCLK2 (io), 36 P0_1 / SOUT2 (io), 37 P0_0 / SIN2 (io), 38 P3_4 / AN4 (io), 39 P3_3 / AN3 (io), 40 P3_2 / AN2 (io), 41 P3_1 / AN1 (io), 42 P3_0 / AN0 (io)

## M38588GC-XXXSP
designator U?
QzROM 8-BIT CMOS Microcomputer, 38000/740 Series CPU, 3858 Group, 48K ROM, 1.5K RAM, 42P4B Pkg; Published: 28-Aug-2009; DatasheetVersion: Rev.1.11, Dec-2008; PackageVersion: Sep-2005; PackageReference: PRDP0042BA-A; Publisher: Altium Limited; PackageDescription: 42-Pin Plastic Shrink DIP, 36.7 x 13 mm Body, 15.24 mm Row Spacing, 1.778 mm Pitch; Code_JEITA: P-SDIP42-13x36.72-1.78; ComponentLink1Description: Manufacturer Link; ComponentLink1URL: http://sg.renesas.com/fmwk.jsp?cnt=740_family_landing.jsp&fp=/products/mpumcu/740_family/; ComponentLink2Description: Datasheet; ComponentLink2URL: http://documentation.renesas.com/eng/products/mpumcu/rej03b0139_3858ds.pdf; ComponentLink3Description: Packaging Specification; ComponentLink3URL: http://sg.renesas.com/media/products/common_info/package/pdf/ic/code/prdp0042ba_a.pdf
footprint PRDP0042BA-A (DIP, 42-Leads, Row Spacing 15.24mm, Pitch 1.778mm, Body 36.7x13mm)
pins: 1 VCC (power), 2 VREF (in), 3 AVSS (power), 4 P4_4 / INT3 / PWM (io), 5 P4_3 / INT2 / SCMP2 (io), 6 P4_2 / INT1 (io), 7 P4_1 / INT0 (io), 8 P4_0 / CNTR1 (io), 9 P2_7 / CNTR0 / ~{SRDY}1 (io), 10 P2_6 / SCLK1 (io), 11 P2_5 / TxD (io), 12 P2_4 / RxD (io), 13 P2_3 / CNTR3 (io), 14 P2_2 / CNTR2 (io), 15 CNVSS (power), 16 P2_1 / XCIN (io), 17 P2_0 / XCOUT (io), 18 ~{RESET} (in), 19 XIN (in), 20 XOUT (out), 21 VSS (power), 22 P1_7 (LED7) (io), 23 P1_6 (LED6) (io), 24 P1_5 (LED5) (io), 25 P1_4 (LED4) (io), 26 P1_3 (LED3) (io), 27 P1_2 (LED2) (io), 28 P1_1 (LED1) (io), 29 P1_0 (LED0) (io), 30 P0_7 / AN8 (io), 31 P0_6 / AN7 (io), 32 P0_5 / AN6 (io), 33 P0_4 / AN5 (io), 34 P0_3 / ~{SRDY}2 (io), 35 P0_2 / SCLK2 (io), 36 P0_1 / SOUT2 (io), 37 P0_0 / SIN2 (io), 38 P3_4 / AN4 (io), 39 P3_3 / AN3 (io), 40 P3_2 / AN2 (io), 41 P3_1 / AN1 (io), 42 P3_0 / AN0 (io)

## M38588GCFP
designator U?
QzROM 8-BIT CMOS Microcomputer, 38000/740 Series CPU, 3858 Group, 48K ROM, 1.5K RAM, 42P2R-E Pkg, shipped in blank; Published: 28-Aug-2009; DatasheetVersion: Rev.1.11, Dec-2008; PackageVersion: Sep-2005; PackageReference: PRSP0042GA-B; Publisher: Altium Limited; PackageDescription: 42-Pin Plastic Shrink SOP, 17.5 x 8.4 mm Body, 0.8 mm Pitch; Code_JEITA: P-SSOP42-8.4x17.5-0.80; ComponentLink1Description: Manufacturer Link; ComponentLink1URL: http://sg.renesas.com/fmwk.jsp?cnt=740_family_landing.jsp&fp=/products/mpumcu/740_family/; ComponentLink2Description: Datasheet; ComponentLink2URL: http://documentation.renesas.com/eng/products/mpumcu/rej03b0139_3858ds.pdf; ComponentLink3Description: Packaging Specification; ComponentLink3URL: http://sg.renesas.com/media/products/common_info/package/pdf/ic/code/prsp0042ga_b.pdf
footprint PRSP0042GA-B_N (SOP, 42-Leads, Body 17.5x8.4mm, Pitch 0.8mm, IPC Medium Density)
footprint PRSP0042GA-B_L (SOP, 42-Leads, Body 17.5x8.4mm, Pitch 0.8mm, IPC High Density)
footprint PRSP0042GA-B_M (SOP, 42-Leads, Body 17.5x8.4mm, Pitch 0.8mm, IPC Low Density)
pins: 1 VCC (power), 2 VREF (in), 3 AVSS (power), 4 P4_4 / INT3 / PWM (io), 5 P4_3 / INT2 / SCMP2 (io), 6 P4_2 / INT1 (io), 7 P4_1 / INT0 (io), 8 P4_0 / CNTR1 (io), 9 P2_7 / CNTR0 / ~{SRDY}1 (io), 10 P2_6 / SCLK1 (io), 11 P2_5 / TxD (io), 12 P2_4 / RxD (io), 13 P2_3 / CNTR3 (io), 14 P2_2 / CNTR2 (io), 15 CNVSS (power), 16 P2_1 / XCIN (io), 17 P2_0 / XCOUT (io), 18 ~{RESET} (in), 19 XIN (in), 20 XOUT (out), 21 VSS (power), 22 P1_7 (LED7) (io), 23 P1_6 (LED6) (io), 24 P1_5 (LED5) (io), 25 P1_4 (LED4) (io), 26 P1_3 (LED3) (io), 27 P1_2 (LED2) (io), 28 P1_1 (LED1) (io), 29 P1_0 (LED0) (io), 30 P0_7 / AN8 (io), 31 P0_6 / AN7 (io), 32 P0_5 / AN6 (io), 33 P0_4 / AN5 (io), 34 P0_3 / ~{SRDY}2 (io), 35 P0_2 / SCLK2 (io), 36 P0_1 / SOUT2 (io), 37 P0_0 / SIN2 (io), 38 P3_4 / AN4 (io), 39 P3_3 / AN3 (io), 40 P3_2 / AN2 (io), 41 P3_1 / AN1 (io), 42 P3_0 / AN0 (io)

## M38588GCSP
designator U?
QzROM 8-BIT CMOS Microcomputer, 38000/740 Series CPU, 3858 Group, 48K ROM, 1.5K RAM, 42P4B Pkg, shipped in blank; Published: 28-Aug-2009; DatasheetVersion: Rev.1.11, Dec-2008; PackageVersion: Sep-2005; PackageReference: PRDP0042BA-A; Publisher: Altium Limited; PackageDescription: 42-Pin Plastic Shrink DIP, 36.7 x 13 mm Body, 15.24 mm Row Spacing, 1.778 mm Pitch; Code_JEITA: P-SDIP42-13x36.72-1.78; ComponentLink1Description: Manufacturer Link; ComponentLink1URL: http://sg.renesas.com/fmwk.jsp?cnt=740_family_landing.jsp&fp=/products/mpumcu/740_family/; ComponentLink2Description: Datasheet; ComponentLink2URL: http://documentation.renesas.com/eng/products/mpumcu/rej03b0139_3858ds.pdf; ComponentLink3Description: Packaging Specification; ComponentLink3URL: http://sg.renesas.com/media/products/common_info/package/pdf/ic/code/prdp0042ba_a.pdf
footprint PRDP0042BA-A (DIP, 42-Leads, Row Spacing 15.24mm, Pitch 1.778mm, Body 36.7x13mm)
pins: 1 VCC (power), 2 VREF (in), 3 AVSS (power), 4 P4_4 / INT3 / PWM (io), 5 P4_3 / INT2 / SCMP2 (io), 6 P4_2 / INT1 (io), 7 P4_1 / INT0 (io), 8 P4_0 / CNTR1 (io), 9 P2_7 / CNTR0 / ~{SRDY}1 (io), 10 P2_6 / SCLK1 (io), 11 P2_5 / TxD (io), 12 P2_4 / RxD (io), 13 P2_3 / CNTR3 (io), 14 P2_2 / CNTR2 (io), 15 CNVSS (power), 16 P2_1 / XCIN (io), 17 P2_0 / XCOUT (io), 18 ~{RESET} (in), 19 XIN (in), 20 XOUT (out), 21 VSS (power), 22 P1_7 (LED7) (io), 23 P1_6 (LED6) (io), 24 P1_5 (LED5) (io), 25 P1_4 (LED4) (io), 26 P1_3 (LED3) (io), 27 P1_2 (LED2) (io), 28 P1_1 (LED1) (io), 29 P1_0 (LED0) (io), 30 P0_7 / AN8 (io), 31 P0_6 / AN7 (io), 32 P0_5 / AN6 (io), 33 P0_4 / AN5 (io), 34 P0_3 / ~{SRDY}2 (io), 35 P0_2 / SCLK2 (io), 36 P0_1 / SOUT2 (io), 37 P0_0 / SIN2 (io), 38 P3_4 / AN4 (io), 39 P3_3 / AN3 (io), 40 P3_2 / AN2 (io), 41 P3_1 / AN1 (io), 42 P3_0 / AN0 (io)

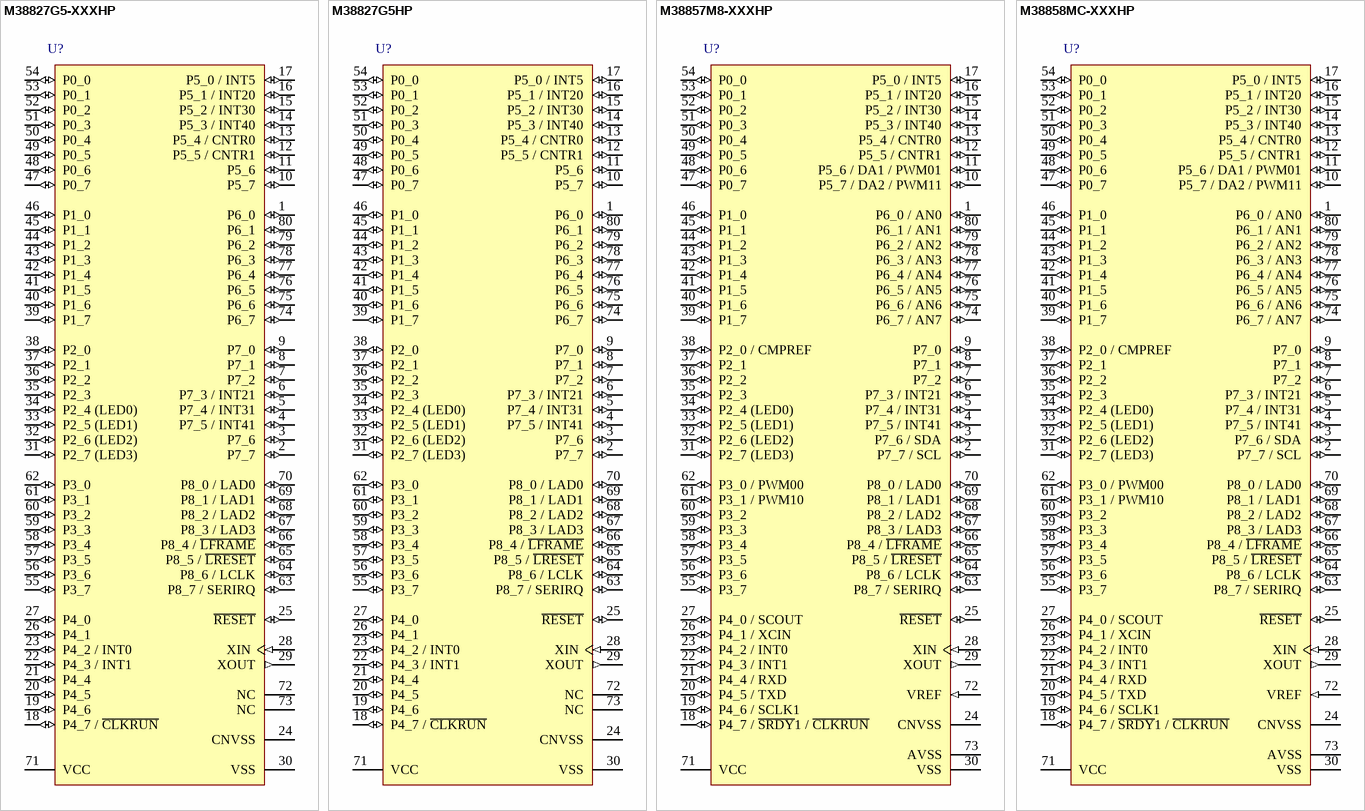
[diagram p34: symbols M38827G5-XXXHP to M38858MC-XXXHP]

## M38827G5-XXXHP
designator U?
QzROM 8-BIT CMOS Microcomputer, 38000/740 Series CPU, 3882 Group, 20K ROM, 1K RAM, 80P6Q-A Pkg; Published: 28-Aug-2009; DatasheetVersion: Rev.1.01, Nov-2005; PackageVersion: Sep-2005; PackageReference: PLQP0080KB-A; Publisher: Altium Limited; PackageDescription: 80-Pin Plastic Low Profile QFP, 12 x 12 x 1.4 mm Body, 0.5 mm Pitch; Code_JEITA: P-LQFP80-12x12-0.50; Code_IPC: SQFP50P1400X1400-80; ComponentLink1Description: Manufacturer Link; ComponentLink1URL: http://sg.renesas.com/fmwk.jsp?cnt=740_family_landing.jsp&fp=/products/mpumcu/740_family/; ComponentLink2Description: Datasheet; ComponentLink2URL: http://documentation.renesas.com/eng/products/mpumcu/rej03b0089_3882ds.pdf; ComponentLink3Description: Packaging Specification; ComponentLink3URL: http://sg.renesas.com/media/products/common_info/package/pdf/ic/code/plqp0080kb_a.pdf
footprint PLQP0080KB-A_N (Shrink QFP, 80-Leads, Body 12x12mm, Pitch 0.5mm, IPC Medium Density)
footprint PLQP0080KB-A_L (Shrink QFP, 80-Leads, Body 12x12mm, Pitch 0.5mm, IPC High Density)
footprint PLQP0080KB-A_M (Shrink QFP, 80-Leads, Body 12x12mm, Pitch 0.5mm, IPC Low Density)
pins: 1 P6_0 (io), 2 P7_7 (io), 3 P7_6 (io), 4 P7_5 / INT41 (io), 5 P7_4 / INT31 (io), 6 P7_3 / INT21 (io), 7 P7_2 (io), 8 P7_1 (io), 9 P7_0 (io), 10 P5_7 (io), 11 P5_6 (io), 12 P5_5 / CNTR1 (io), 13 P5_4 / CNTR0 (io), 14 P5_3 / INT40 (io), 15 P5_2 / INT30 (io), 16 P5_1 / INT20 (io), 17 P5_0 / INT5 (io), 18 P4_7 / ~{CLKRUN} (io), 19 P4_6 (io), 20 P4_5 (io), 21 P4_4 (io), 22 P4_3 / INT1 (io), 23 P4_2 / INT0 (io), 24 CNVSS (power), 25 ~{RESET} (io), 26 P4_1 (io), 27 P4_0 (io), 28 XIN (in), 29 XOUT (out), 30 VSS (power), 31 P2_7 (LED3) (io), 32 P2_6 (LED2) (io), 33 P2_5 (LED1) (io), 34 P2_4 (LED0) (io), 35 P2_3 (io), 36 P2_2 (io), 37 P2_1 (io), 38 P2_0 (io), 39 P1_7 (io), 40 P1_6 (io), 41 P1_5 (io), 42 P1_4 (io), 43 P1_3 (io), 44 P1_2 (io), 45 P1_1 (io), 46 P1_0 (io), 47 P0_7 (io), 48 P0_6 (io), 49 P0_5 (io), 50 P0_4 (io), 51 P0_3 (io), 52 P0_2 (io), 53 P0_1 (io), 54 P0_0 (io), 55 P3_7 (io), 56 P3_6 (io), 57 P3_5 (io), 58 P3_4 (io), 59 P3_3 (io), 60 P3_2 (io), 61 P3_1 (io), 62 P3_0 (io), 63 P8_7 / SERIRQ (io), 64 P8_6 / LCLK (io), 65 P8_5 / ~{LRESET} (io), 66 P8_4 / ~{LFRAME} (io), 67 P8_3 / LAD3 (io), 68 P8_2 / LAD2 (io), 69 P8_1 / LAD1 (io), 70 P8_0 / LAD0 (io), 71 VCC (power), 72 NC, 73 NC, 74 P6_7 (io), 75 P6_6 (io), 76 P6_5 (io), 77 P6_4 (io), 78 P6_3 (io), 79 P6_2 (io), 80 P6_1 (io)

## M38827G5HP
designator U?
QzROM 8-BIT CMOS Microcomputer, 38000/740 Series CPU, 3882 Group, 20K ROM, 1K RAM, 80P6Q-A Pkg, shipped in blank; Published: 28-Aug-2009; DatasheetVersion: Rev.1.01, Nov-2005; PackageVersion: Sep-2005; PackageReference: PLQP0080KB-A; Publisher: Altium Limited; PackageDescription: 80-Pin Plastic Low Profile QFP, 12 x 12 x 1.4 mm Body, 0.5 mm Pitch; Code_JEITA: P-LQFP80-12x12-0.50; Code_IPC: SQFP50P1400X1400-80; ComponentLink1Description: Manufacturer Link; ComponentLink1URL: http://sg.renesas.com/fmwk.jsp?cnt=740_family_landing.jsp&fp=/products/mpumcu/740_family/; ComponentLink2Description: Datasheet; ComponentLink2URL: http://documentation.renesas.com/eng/products/mpumcu/rej03b0089_3882ds.pdf; ComponentLink3Description: Packaging Specification; ComponentLink3URL: http://sg.renesas.com/media/products/common_info/package/pdf/ic/code/plqp0080kb_a.pdf
footprint PLQP0080KB-A_N (Shrink QFP, 80-Leads, Body 12x12mm, Pitch 0.5mm, IPC Medium Density)
footprint PLQP0080KB-A_L (Shrink QFP, 80-Leads, Body 12x12mm, Pitch 0.5mm, IPC High Density)
footprint PLQP0080KB-A_M (Shrink QFP, 80-Leads, Body 12x12mm, Pitch 0.5mm, IPC Low Density)
pins: 1 P6_0 (io), 2 P7_7 (io), 3 P7_6 (io), 4 P7_5 / INT41 (io), 5 P7_4 / INT31 (io), 6 P7_3 / INT21 (io), 7 P7_2 (io), 8 P7_1 (io), 9 P7_0 (io), 10 P5_7 (io), 11 P5_6 (io), 12 P5_5 / CNTR1 (io), 13 P5_4 / CNTR0 (io), 14 P5_3 / INT40 (io), 15 P5_2 / INT30 (io), 16 P5_1 / INT20 (io), 17 P5_0 / INT5 (io), 18 P4_7 / ~{CLKRUN} (io), 19 P4_6 (io), 20 P4_5 (io), 21 P4_4 (io), 22 P4_3 / INT1 (io), 23 P4_2 / INT0 (io), 24 CNVSS (power), 25 ~{RESET} (io), 26 P4_1 (io), 27 P4_0 (io), 28 XIN (in), 29 XOUT (out), 30 VSS (power), 31 P2_7 (LED3) (io), 32 P2_6 (LED2) (io), 33 P2_5 (LED1) (io), 34 P2_4 (LED0) (io), 35 P2_3 (io), 36 P2_2 (io), 37 P2_1 (io), 38 P2_0 (io), 39 P1_7 (io), 40 P1_6 (io), 41 P1_5 (io), 42 P1_4 (io), 43 P1_3 (io), 44 P1_2 (io), 45 P1_1 (io), 46 P1_0 (io), 47 P0_7 (io), 48 P0_6 (io), 49 P0_5 (io), 50 P0_4 (io), 51 P0_3 (io), 52 P0_2 (io), 53 P0_1 (io), 54 P0_0 (io), 55 P3_7 (io), 56 P3_6 (io), 57 P3_5 (io), 58 P3_4 (io), 59 P3_3 (io), 60 P3_2 (io), 61 P3_1 (io), 62 P3_0 (io), 63 P8_7 / SERIRQ (io), 64 P8_6 / LCLK (io), 65 P8_5 / ~{LRESET} (io), 66 P8_4 / ~{LFRAME} (io), 67 P8_3 / LAD3 (io), 68 P8_2 / LAD2 (io), 69 P8_1 / LAD1 (io), 70 P8_0 / LAD0 (io), 71 VCC (power), 72 NC, 73 NC, 74 P6_7 (io), 75 P6_6 (io), 76 P6_5 (io), 77 P6_4 (io), 78 P6_3 (io), 79 P6_2 (io), 80 P6_1 (io)

## M38857M8-XXXHP
designator U?
Mask ROM 8-BIT CMOS Microcomputer, 38000/740 Series CPU, 3885 Group, 32K ROM, 1K RAM, 80P6Q-A Pkg; Published: 28-Aug-2009; DatasheetVersion: Rev.1.0, Jun-2002; PackageVersion: Sep-2005; PackageReference: PLQP0080KB-A; Publisher: Altium Limited; PackageDescription: 80-Pin Plastic Low Profile QFP, 12 x 12 x 1.4 mm Body, 0.5 mm Pitch; Code_JEITA: P-LQFP80-12x12-0.50; Code_IPC: SQFP50P1400X1400-80; ComponentLink1Description: Manufacturer Link; ComponentLink1URL: http://sg.renesas.com/fmwk.jsp?cnt=740_family_landing.jsp&fp=/products/mpumcu/740_family/; ComponentLink2Description: Datasheet; ComponentLink2URL: http://documentation.renesas.com/eng/products/mpumcu/e3885g.pdf; ComponentLink3Description: Packaging Specification; ComponentLink3URL: http://sg.renesas.com/media/products/common_info/package/pdf/ic/code/plqp0080kb_a.pdf
footprint PLQP0080KB-A_N (Shrink QFP, 80-Leads, Body 12x12mm, Pitch 0.5mm, IPC Medium Density)
footprint PLQP0080KB-A_L (Shrink QFP, 80-Leads, Body 12x12mm, Pitch 0.5mm, IPC High Density)
footprint PLQP0080KB-A_M (Shrink QFP, 80-Leads, Body 12x12mm, Pitch 0.5mm, IPC Low Density)
pins: 1 P6_0 / AN0 (io), 2 P7_7 / SCL (io), 3 P7_6 / SDA (io), 4 P7_5 / INT41 (io), 5 P7_4 / INT31 (io), 6 P7_3 / INT21 (io), 7 P7_2 (io), 8 P7_1 (io), 9 P7_0 (io), 10 P5_7 / DA2 / PWM11 (io), 11 P5_6 / DA1 / PWM01 (io), 12 P5_5 / CNTR1 (io), 13 P5_4 / CNTR0 (io), 14 P5_3 / INT40 (io), 15 P5_2 / INT30 (io), 16 P5_1 / INT20 (io), 17 P5_0 / INT5 (io), 18 P4_7 / ~{SRDY}1 / ~{CLKRUN} (io), 19 P4_6 / SCLK1 (io), 20 P4_5 / TXD (io), 21 P4_4 / RXD (io), 22 P4_3 / INT1 (io), 23 P4_2 / INT0 (io), 24 CNVSS (power), 25 ~{RESET} (io), 26 P4_1 / XCIN (io), 27 P4_0 / SCOUT (io), 28 XIN (in), 29 XOUT (out), 30 VSS (power), 31 P2_7 (LED3) (io), 32 P2_6 (LED2) (io), 33 P2_5 (LED1) (io), 34 P2_4 (LED0) (io), 35 P2_3 (io), 36 P2_2 (io), 37 P2_1 (io), 38 P2_0 / CMPREF (io), 39 P1_7 (io), 40 P1_6 (io), 41 P1_5 (io), 42 P1_4 (io), 43 P1_3 (io), 44 P1_2 (io), 45 P1_1 (io), 46 P1_0 (io), 47 P0_7 (io), 48 P0_6 (io), 49 P0_5 (io), 50 P0_4 (io), 51 P0_3 (io), 52 P0_2 (io), 53 P0_1 (io), 54 P0_0 (io), 55 P3_7 (io), 56 P3_6 (io), 57 P3_5 (io), 58 P3_4 (io), 59 P3_3 (io), 60 P3_2 (io), 61 P3_1 / PWM10 (io), 62 P3_0 / PWM00 (io), 63 P8_7 / SERIRQ (io), 64 P8_6 / LCLK (io), 65 P8_5 / ~{LRESET} (io), 66 P8_4 / ~{LFRAME} (io), 67 P8_3 / LAD3 (io), 68 P8_2 / LAD2 (io), 69 P8_1 / LAD1 (io), 70 P8_0 / LAD0 (io), 71 VCC (power), 72 VREF (in), 73 AVSS (power), 74 P6_7 / AN7 (io), 75 P6_6 / AN6 (io), 76 P6_5 / AN5 (io), 77 P6_4 / AN4 (io), 78 P6_3 / AN3 (io), 79 P6_2 / AN2 (io), 80 P6_1 / AN1 (io)

## M38858MC-XXXHP
designator U?
Mask ROM 8-BIT CMOS Microcomputer, 38000/740 Series CPU, 3885 Group, 48K ROM, 1.5K RAM, 80P6Q-A Pkg; Published: 28-Aug-2009; DatasheetVersion: Rev.1.0, Jun-2002; PackageVersion: Sep-2005; PackageReference: PLQP0080KB-A; Publisher: Altium Limited; PackageDescription: 80-Pin Plastic Low Profile QFP, 12 x 12 x 1.4 mm Body, 0.5 mm Pitch; Code_JEITA: P-LQFP80-12x12-0.50; Code_IPC: SQFP50P1400X1400-80; ComponentLink1Description: Manufacturer Link; ComponentLink1URL: http://sg.renesas.com/fmwk.jsp?cnt=740_family_landing.jsp&fp=/products/mpumcu/740_family/; ComponentLink2Description: Datasheet; ComponentLink2URL: http://documentation.renesas.com/eng/products/mpumcu/e3885g.pdf; ComponentLink3Description: Packaging Specification; ComponentLink3URL: http://sg.renesas.com/media/products/common_info/package/pdf/ic/code/plqp0080kb_a.pdf
footprint PLQP0080KB-A_N (Shrink QFP, 80-Leads, Body 12x12mm, Pitch 0.5mm, IPC Medium Density)
footprint PLQP0080KB-A_L (Shrink QFP, 80-Leads, Body 12x12mm, Pitch 0.5mm, IPC High Density)
footprint PLQP0080KB-A_M (Shrink QFP, 80-Leads, Body 12x12mm, Pitch 0.5mm, IPC Low Density)
pins: 1 P6_0 / AN0 (io), 2 P7_7 / SCL (io), 3 P7_6 / SDA (io), 4 P7_5 / INT41 (io), 5 P7_4 / INT31 (io), 6 P7_3 / INT21 (io), 7 P7_2 (io), 8 P7_1 (io), 9 P7_0 (io), 10 P5_7 / DA2 / PWM11 (io), 11 P5_6 / DA1 / PWM01 (io), 12 P5_5 / CNTR1 (io), 13 P5_4 / CNTR0 (io), 14 P5_3 / INT40 (io), 15 P5_2 / INT30 (io), 16 P5_1 / INT20 (io), 17 P5_0 / INT5 (io), 18 P4_7 / ~{SRDY}1 / ~{CLKRUN} (io), 19 P4_6 / SCLK1 (io), 20 P4_5 / TXD (io), 21 P4_4 / RXD (io), 22 P4_3 / INT1 (io), 23 P4_2 / INT0 (io), 24 CNVSS (power), 25 ~{RESET} (io), 26 P4_1 / XCIN (io), 27 P4_0 / SCOUT (io), 28 XIN (in), 29 XOUT (out), 30 VSS (power), 31 P2_7 (LED3) (io), 32 P2_6 (LED2) (io), 33 P2_5 (LED1) (io), 34 P2_4 (LED0) (io), 35 P2_3 (io), 36 P2_2 (io), 37 P2_1 (io), 38 P2_0 / CMPREF (io), 39 P1_7 (io), 40 P1_6 (io), 41 P1_5 (io), 42 P1_4 (io), 43 P1_3 (io), 44 P1_2 (io), 45 P1_1 (io), 46 P1_0 (io), 47 P0_7 (io), 48 P0_6 (io), 49 P0_5 (io), 50 P0_4 (io), 51 P0_3 (io), 52 P0_2 (io), 53 P0_1 (io), 54 P0_0 (io), 55 P3_7 (io), 56 P3_6 (io), 57 P3_5 (io), 58 P3_4 (io), 59 P3_3 (io), 60 P3_2 (io), 61 P3_1 / PWM10 (io), 62 P3_0 / PWM00 (io), 63 P8_7 / SERIRQ (io), 64 P8_6 / LCLK (io), 65 P8_5 / ~{LRESET} (io), 66 P8_4 / ~{LFRAME} (io), 67 P8_3 / LAD3 (io), 68 P8_2 / LAD2 (io), 69 P8_1 / LAD1 (io), 70 P8_0 / LAD0 (io), 71 VCC (power), 72 VREF (in), 73 AVSS (power), 74 P6_7 / AN7 (io), 75 P6_6 / AN6 (io), 76 P6_5 / AN5 (io), 77 P6_4 / AN4 (io), 78 P6_3 / AN3 (io), 79 P6_2 / AN2 (io), 80 P6_1 / AN1 (io)

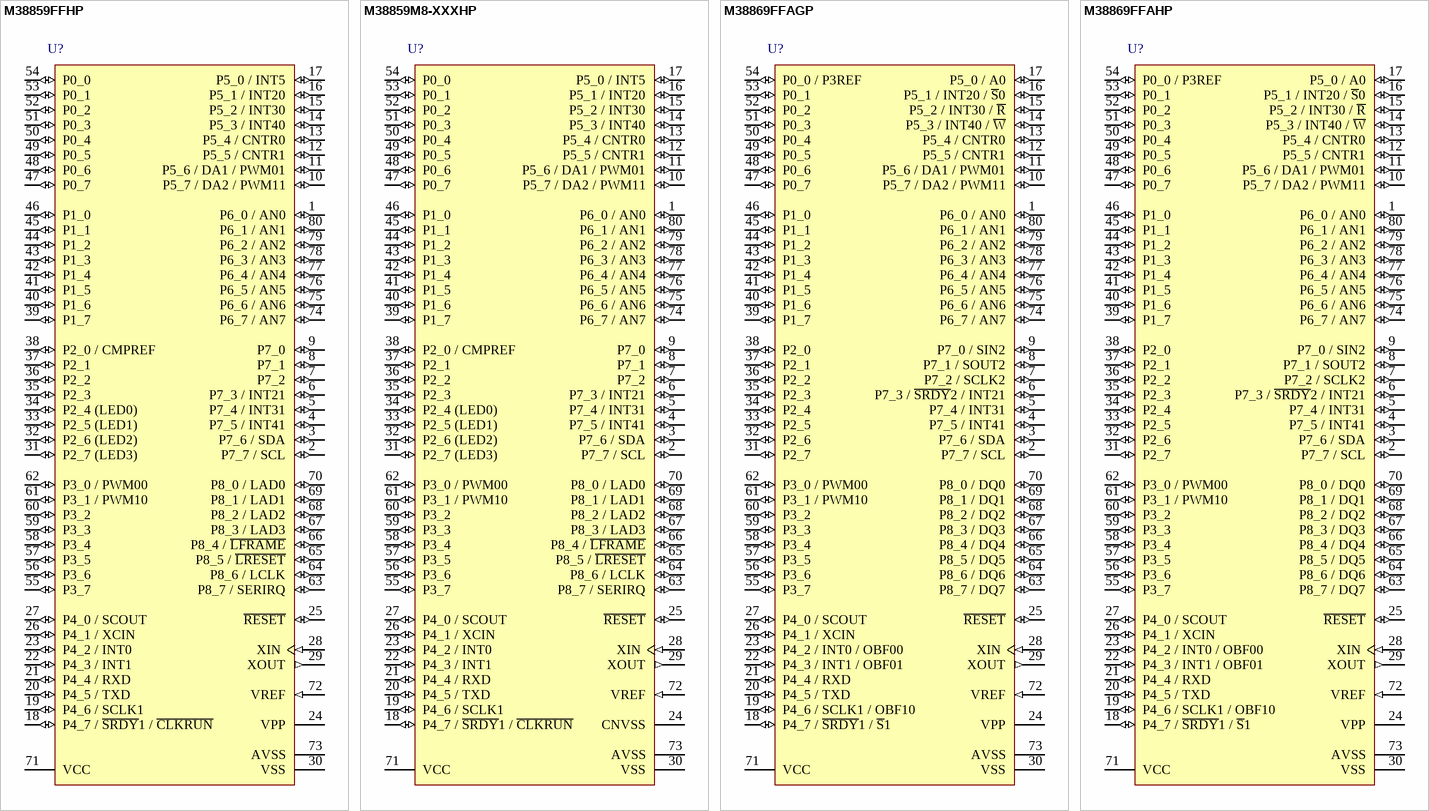
[diagram p35: symbols M38859FFHP to M38869FFAHP]

## M38859FFHP
designator U?
Flash Memory 8-BIT CMOS Microcomputer, 38000/740 Series CPU, 3885 Group, 60K ROM, 2K RAM, 80P6Q-A Pkg; Published: 28-Aug-2009; DatasheetVersion: Rev.1.0, Jun-2002; PackageVersion: Sep-2005; PackageReference: PLQP0080KB-A; Publisher: Altium Limited; PackageDescription: 80-Pin Plastic Low Profile QFP, 12 x 12 x 1.4 mm Body, 0.5 mm Pitch; Code_JEITA: P-LQFP80-12x12-0.50; Code_IPC: SQFP50P1400X1400-80; ComponentLink1Description: Manufacturer Link; ComponentLink1URL: http://sg.renesas.com/fmwk.jsp?cnt=740_family_landing.jsp&fp=/products/mpumcu/740_family/; ComponentLink2Description: Datasheet; ComponentLink2URL: http://documentation.renesas.com/eng/products/mpumcu/e3885g.pdf; ComponentLink3Description: Packaging Specification; ComponentLink3URL: http://sg.renesas.com/media/products/common_info/package/pdf/ic/code/plqp0080kb_a.pdf
footprint PLQP0080KB-A_N (Shrink QFP, 80-Leads, Body 12x12mm, Pitch 0.5mm, IPC Medium Density)
footprint PLQP0080KB-A_L (Shrink QFP, 80-Leads, Body 12x12mm, Pitch 0.5mm, IPC High Density)
footprint PLQP0080KB-A_M (Shrink QFP, 80-Leads, Body 12x12mm, Pitch 0.5mm, IPC Low Density)
pins: 1 P6_0 / AN0 (io), 2 P7_7 / SCL (io), 3 P7_6 / SDA (io), 4 P7_5 / INT41 (io), 5 P7_4 / INT31 (io), 6 P7_3 / INT21 (io), 7 P7_2 (io), 8 P7_1 (io), 9 P7_0 (io), 10 P5_7 / DA2 / PWM11 (io), 11 P5_6 / DA1 / PWM01 (io), 12 P5_5 / CNTR1 (io), 13 P5_4 / CNTR0 (io), 14 P5_3 / INT40 (io), 15 P5_2 / INT30 (io), 16 P5_1 / INT20 (io), 17 P5_0 / INT5 (io), 18 P4_7 / ~{SRDY}1 / ~{CLKRUN} (io), 19 P4_6 / SCLK1 (io), 20 P4_5 / TXD (io), 21 P4_4 / RXD (io), 22 P4_3 / INT1 (io), 23 P4_2 / INT0 (io), 24 VPP (power), 25 ~{RESET} (io), 26 P4_1 / XCIN (io), 27 P4_0 / SCOUT (io), 28 XIN (in), 29 XOUT (out), 30 VSS (power), 31 P2_7 (LED3) (io), 32 P2_6 (LED2) (io), 33 P2_5 (LED1) (io), 34 P2_4 (LED0) (io), 35 P2_3 (io), 36 P2_2 (io), 37 P2_1 (io), 38 P2_0 / CMPREF (io), 39 P1_7 (io), 40 P1_6 (io), 41 P1_5 (io), 42 P1_4 (io), 43 P1_3 (io), 44 P1_2 (io), 45 P1_1 (io), 46 P1_0 (io), 47 P0_7 (io), 48 P0_6 (io), 49 P0_5 (io), 50 P0_4 (io), 51 P0_3 (io), 52 P0_2 (io), 53 P0_1 (io), 54 P0_0 (io), 55 P3_7 (io), 56 P3_6 (io), 57 P3_5 (io), 58 P3_4 (io), 59 P3_3 (io), 60 P3_2 (io), 61 P3_1 / PWM10 (io), 62 P3_0 / PWM00 (io), 63 P8_7 / SERIRQ (io), 64 P8_6 / LCLK (io), 65 P8_5 / ~{LRESET} (io), 66 P8_4 / ~{LFRAME} (io), 67 P8_3 / LAD3 (io), 68 P8_2 / LAD2 (io), 69 P8_1 / LAD1 (io), 70 P8_0 / LAD0 (io), 71 VCC (power), 72 VREF (in), 73 AVSS (power), 74 P6_7 / AN7 (io), 75 P6_6 / AN6 (io), 76 P6_5 / AN5 (io), 77 P6_4 / AN4 (io), 78 P6_3 / AN3 (io), 79 P6_2 / AN2 (io), 80 P6_1 / AN1 (io)

## M38859M8-XXXHP
designator U?
Mask ROM 8-BIT CMOS Microcomputer, 38000/740 Series CPU, 3885 Group, 32K ROM, 2K RAM, 80P6Q-A Pkg; Published: 28-Aug-2009; DatasheetVersion: Rev.1.0, Jun-2002; PackageVersion: Sep-2005; PackageReference: PLQP0080KB-A; Publisher: Altium Limited; PackageDescription: 80-Pin Plastic Low Profile QFP, 12 x 12 x 1.4 mm Body, 0.5 mm Pitch; Code_JEITA: P-LQFP80-12x12-0.50; Code_IPC: SQFP50P1400X1400-80; ComponentLink1Description: Manufacturer Link; ComponentLink1URL: http://sg.renesas.com/fmwk.jsp?cnt=740_family_landing.jsp&fp=/products/mpumcu/740_family/; ComponentLink2Description: Datasheet; ComponentLink2URL: http://documentation.renesas.com/eng/products/mpumcu/e3885g.pdf; ComponentLink3Description: Packaging Specification; ComponentLink3URL: http://sg.renesas.com/media/products/common_info/package/pdf/ic/code/plqp0080kb_a.pdf
footprint PLQP0080KB-A_N (Shrink QFP, 80-Leads, Body 12x12mm, Pitch 0.5mm, IPC Medium Density)
footprint PLQP0080KB-A_L (Shrink QFP, 80-Leads, Body 12x12mm, Pitch 0.5mm, IPC High Density)
footprint PLQP0080KB-A_M (Shrink QFP, 80-Leads, Body 12x12mm, Pitch 0.5mm, IPC Low Density)
pins: 1 P6_0 / AN0 (io), 2 P7_7 / SCL (io), 3 P7_6 / SDA (io), 4 P7_5 / INT41 (io), 5 P7_4 / INT31 (io), 6 P7_3 / INT21 (io), 7 P7_2 (io), 8 P7_1 (io), 9 P7_0 (io), 10 P5_7 / DA2 / PWM11 (io), 11 P5_6 / DA1 / PWM01 (io), 12 P5_5 / CNTR1 (io), 13 P5_4 / CNTR0 (io), 14 P5_3 / INT40 (io), 15 P5_2 / INT30 (io), 16 P5_1 / INT20 (io), 17 P5_0 / INT5 (io), 18 P4_7 / ~{SRDY}1 / ~{CLKRUN} (io), 19 P4_6 / SCLK1 (io), 20 P4_5 / TXD (io), 21 P4_4 / RXD (io), 22 P4_3 / INT1 (io), 23 P4_2 / INT0 (io), 24 CNVSS (power), 25 ~{RESET} (io), 26 P4_1 / XCIN (io), 27 P4_0 / SCOUT (io), 28 XIN (in), 29 XOUT (out), 30 VSS (power), 31 P2_7 (LED3) (io), 32 P2_6 (LED2) (io), 33 P2_5 (LED1) (io), 34 P2_4 (LED0) (io), 35 P2_3 (io), 36 P2_2 (io), 37 P2_1 (io), 38 P2_0 / CMPREF (io), 39 P1_7 (io), 40 P1_6 (io), 41 P1_5 (io), 42 P1_4 (io), 43 P1_3 (io), 44 P1_2 (io), 45 P1_1 (io), 46 P1_0 (io), 47 P0_7 (io), 48 P0_6 (io), 49 P0_5 (io), 50 P0_4 (io), 51 P0_3 (io), 52 P0_2 (io), 53 P0_1 (io), 54 P0_0 (io), 55 P3_7 (io), 56 P3_6 (io), 57 P3_5 (io), 58 P3_4 (io), 59 P3_3 (io), 60 P3_2 (io), 61 P3_1 / PWM10 (io), 62 P3_0 / PWM00 (io), 63 P8_7 / SERIRQ (io), 64 P8_6 / LCLK (io), 65 P8_5 / ~{LRESET} (io), 66 P8_4 / ~{LFRAME} (io), 67 P8_3 / LAD3 (io), 68 P8_2 / LAD2 (io), 69 P8_1 / LAD1 (io), 70 P8_0 / LAD0 (io), 71 VCC (power), 72 VREF (in), 73 AVSS (power), 74 P6_7 / AN7 (io), 75 P6_6 / AN6 (io), 76 P6_5 / AN5 (io), 77 P6_4 / AN4 (io), 78 P6_3 / AN3 (io), 79 P6_2 / AN2 (io), 80 P6_1 / AN1 (io)

## M38869FFAGP
designator U?
Flash Memory 8-BIT CMOS Microcomputer, 38000/740 Series CPU, 3886 Group, 60K ROM, 2K RAM, 80P6S-A Pkg; Published: 28-Aug-2009; DatasheetVersion: Rev.3.0, Sep-2000; PackageVersion: Sep-2005; PackageReference: PRQP0080JA-A; Publisher: Altium Limited; PackageDescription: 80-Pin Plastic Quad Flat Pack, 14 x 14 x 2.8 mm Body, 0.65 mm Pitch; Supplier 1: Digi-Key; Supplier Part Number 1: M38869FFAGP-ND; Code_JEITA: P-QFP80-14x14-0.65; ComponentLink1Description: Manufacturer Link; ComponentLink1URL: http://sg.renesas.com/fmwk.jsp?cnt=740_family_landing.jsp&fp=/products/mpumcu/740_family/; ComponentLink2Description: Datasheet; ComponentLink2URL: http://documentation.renesas.com/eng/products/mpumcu/e3886um.pdf; ComponentLink3Description: Packaging Specification; ComponentLink3URL: http://sg.renesas.com/media/products/common_info/package/pdf/ic/code/prqp0080ja_a.pdf
footprint PRQP0080JA-A_N (QFP, 80-Leads, Body 14x14mm, Pitch 0.65mm, IPC Medium Density)
footprint PRQP0080JA-A_L (QFP, 80-Leads, Body 14x14mm, Pitch 0.65mm, IPC High Density)
footprint PRQP0080JA-A_M (QFP, 80-Leads, Body 14x14mm, Pitch 0.65mm, IPC Low Density)
pins: 1 P6_0 / AN0 (io), 2 P7_7 / SCL (io), 3 P7_6 / SDA (io), 4 P7_5 / INT41 (io), 5 P7_4 / INT31 (io), 6 P7_3 / ~{SRDY}2 / INT21 (io), 7 P7_2 / SCLK2 (io), 8 P7_1 / SOUT2 (io), 9 P7_0 / SIN2 (io), 10 P5_7 / DA2 / PWM11 (io), 11 P5_6 / DA1 / PWM01 (io), 12 P5_5 / CNTR1 (io), 13 P5_4 / CNTR0 (io), 14 P5_3 / INT40 / ~{W} (io), 15 P5_2 / INT30 / ~{R} (io), 16 P5_1 / INT20 / ~{S}0 (io), 17 P5_0 / A0 (io), 18 P4_7 / ~{SRDY}1 / ~{S}1 (io), 19 P4_6 / SCLK1 / OBF10 (io), 20 P4_5 / TXD (io), 21 P4_4 / RXD (io), 22 P4_3 / INT1 / OBF01 (io), 23 P4_2 / INT0 / OBF00 (io), 24 VPP (power), 25 ~{RESET} (io), 26 P4_1 / XCIN (io), 27 P4_0 / SCOUT (io), 28 XIN (in), 29 XOUT (out), 30 VSS (power), 31 P2_7 (io), 32 P2_6 (io), 33 P2_5 (io), 34 P2_4 (io), 35 P2_3 (io), 36 P2_2 (io), 37 P2_1 (io), 38 P2_0 (io), 39 P1_7 (io), 40 P1_6 (io), 41 P1_5 (io), 42 P1_4 (io), 43 P1_3 (io), 44 P1_2 (io), 45 P1_1 (io), 46 P1_0 (io), 47 P0_7 (io), 48 P0_6 (io), 49 P0_5 (io), 50 P0_4 (io), 51 P0_3 (io), 52 P0_2 (io), 53 P0_1 (io), 54 P0_0 / P3REF (io), 55 P3_7 (io), 56 P3_6 (io), 57 P3_5 (io), 58 P3_4 (io), 59 P3_3 (io), 60 P3_2 (io), 61 P3_1 / PWM10 (io), 62 P3_0 / PWM00 (io), 63 P8_7 / DQ7 (io), 64 P8_6 / DQ6 (io), 65 P8_5 / DQ5 (io), 66 P8_4 / DQ4 (io), 67 P8_3 / DQ3 (io), 68 P8_2 / DQ2 (io), 69 P8_1 / DQ1 (io), 70 P8_0 / DQ0 (io), 71 VCC (power), 72 VREF (in), 73 AVSS (power), 74 P6_7 / AN7 (io), 75 P6_6 / AN6 (io), 76 P6_5 / AN5 (io), 77 P6_4 / AN4 (io), 78 P6_3 / AN3 (io), 79 P6_2 / AN2 (io), 80 P6_1 / AN1 (io)

## M38869FFAHP
designator U?
Flash Memory 8-BIT CMOS Microcomputer, 38000/740 Series CPU, 3886 Group, 60K ROM, 2K RAM, 80P6Q-A Pkg; Published: 28-Aug-2009; DatasheetVersion: Rev.3.0, Sep-2000; PackageVersion: Sep-2005; PackageReference: PLQP0080KB-A; Publisher: Altium Limited; PackageDescription: 80-Pin Plastic Low Profile QFP, 12 x 12 x 1.4 mm Body, 0.5 mm Pitch; Supplier 1: Digi-Key; Supplier Part Number 1: M38869FFAHP-ND; Code_JEITA: P-LQFP80-12x12-0.50; Code_IPC: SQFP50P1400X1400-80; ComponentLink1Description: Manufacturer Link; ComponentLink1URL: http://sg.renesas.com/fmwk.jsp?cnt=740_family_landing.jsp&fp=/products/mpumcu/740_family/; ComponentLink2Description: Datasheet; ComponentLink2URL: http://documentation.renesas.com/eng/products/mpumcu/e3886um.pdf; ComponentLink3Description: Packaging Specification; ComponentLink3URL: http://sg.renesas.com/media/products/common_info/package/pdf/ic/code/plqp0080kb_a.pdf
footprint PLQP0080KB-A_N (Shrink QFP, 80-Leads, Body 12x12mm, Pitch 0.5mm, IPC Medium Density)
footprint PLQP0080KB-A_L (Shrink QFP, 80-Leads, Body 12x12mm, Pitch 0.5mm, IPC High Density)
footprint PLQP0080KB-A_M (Shrink QFP, 80-Leads, Body 12x12mm, Pitch 0.5mm, IPC Low Density)
pins: 1 P6_0 / AN0 (io), 2 P7_7 / SCL (io), 3 P7_6 / SDA (io), 4 P7_5 / INT41 (io), 5 P7_4 / INT31 (io), 6 P7_3 / ~{SRDY}2 / INT21 (io), 7 P7_2 / SCLK2 (io), 8 P7_1 / SOUT2 (io), 9 P7_0 / SIN2 (io), 10 P5_7 / DA2 / PWM11 (io), 11 P5_6 / DA1 / PWM01 (io), 12 P5_5 / CNTR1 (io), 13 P5_4 / CNTR0 (io), 14 P5_3 / INT40 / ~{W} (io), 15 P5_2 / INT30 / ~{R} (io), 16 P5_1 / INT20 / ~{S}0 (io), 17 P5_0 / A0 (io), 18 P4_7 / ~{SRDY}1 / ~{S}1 (io), 19 P4_6 / SCLK1 / OBF10 (io), 20 P4_5 / TXD (io), 21 P4_4 / RXD (io), 22 P4_3 / INT1 / OBF01 (io), 23 P4_2 / INT0 / OBF00 (io), 24 VPP (power), 25 ~{RESET} (io), 26 P4_1 / XCIN (io), 27 P4_0 / SCOUT (io), 28 XIN (in), 29 XOUT (out), 30 VSS (power), 31 P2_7 (io), 32 P2_6 (io), 33 P2_5 (io), 34 P2_4 (io), 35 P2_3 (io), 36 P2_2 (io), 37 P2_1 (io), 38 P2_0 (io), 39 P1_7 (io), 40 P1_6 (io), 41 P1_5 (io), 42 P1_4 (io), 43 P1_3 (io), 44 P1_2 (io), 45 P1_1 (io), 46 P1_0 (io), 47 P0_7 (io), 48 P0_6 (io), 49 P0_5 (io), 50 P0_4 (io), 51 P0_3 (io), 52 P0_2 (io), 53 P0_1 (io), 54 P0_0 / P3REF (io), 55 P3_7 (io), 56 P3_6 (io), 57 P3_5 (io), 58 P3_4 (io), 59 P3_3 (io), 60 P3_2 (io), 61 P3_1 / PWM10 (io), 62 P3_0 / PWM00 (io), 63 P8_7 / DQ7 (io), 64 P8_6 / DQ6 (io), 65 P8_5 / DQ5 (io), 66 P8_4 / DQ4 (io), 67 P8_3 / DQ3 (io), 68 P8_2 / DQ2 (io), 69 P8_1 / DQ1 (io), 70 P8_0 / DQ0 (io), 71 VCC (power), 72 VREF (in), 73 AVSS (power), 74 P6_7 / AN7 (io), 75 P6_6 / AN6 (io), 76 P6_5 / AN5 (io), 77 P6_4 / AN4 (io), 78 P6_3 / AN3 (io), 79 P6_2 / AN2 (io), 80 P6_1 / AN1 (io)

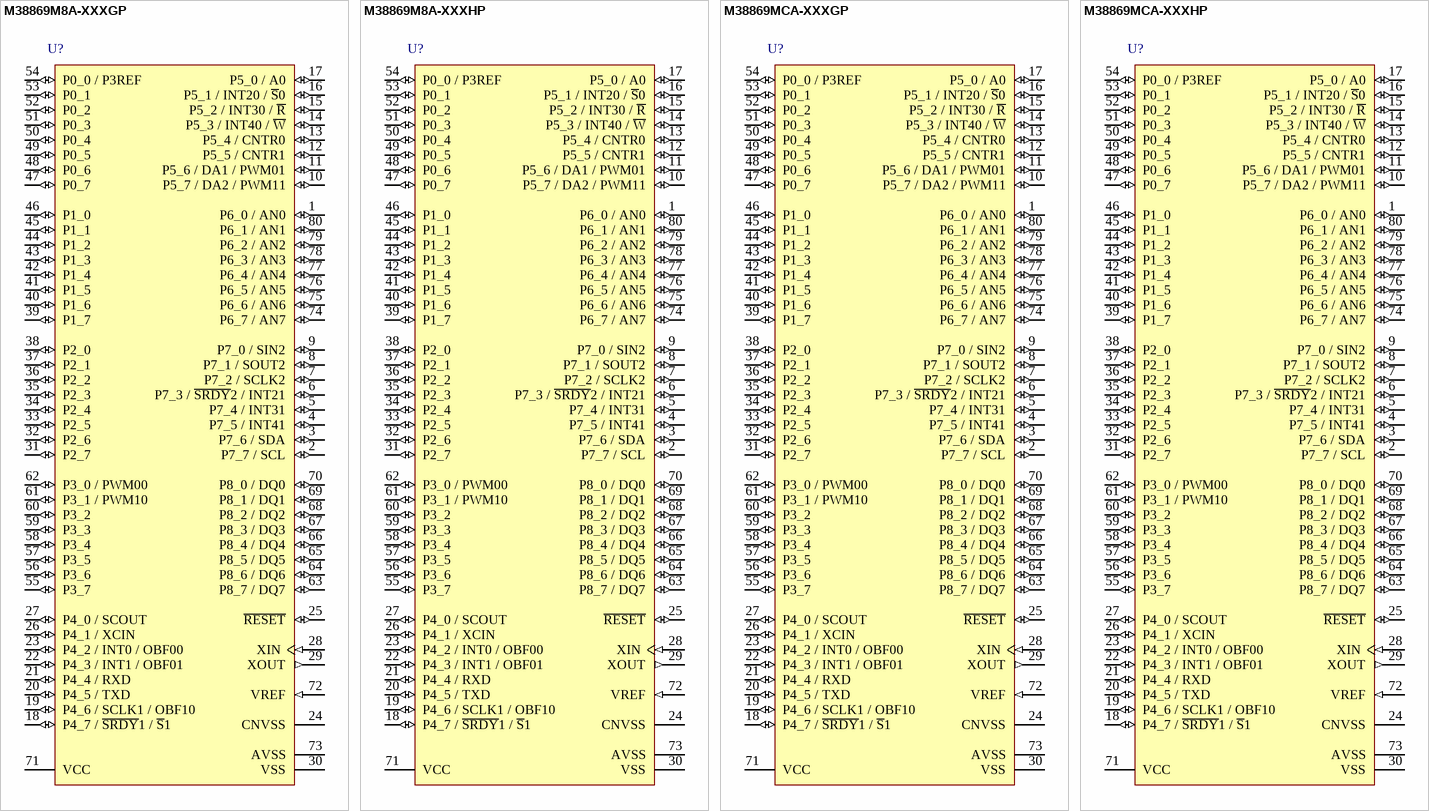
[diagram p36: symbols M38869M8A-XXXGP to M38869MCA-XXXHP]